# Altium footprint library SW_MSS-102564-D.PcbLib: 1 footprints
Each footprint in its own frame and in the unit in brackets; x right, y up, seen from the top. Pads: shape width x height; smd on the part's side, far side on the other; paste and mask are expansions set on the pad; w line width, h text height; cw(c..) or ccw(c..) is an arc to the next point about the centre after c.
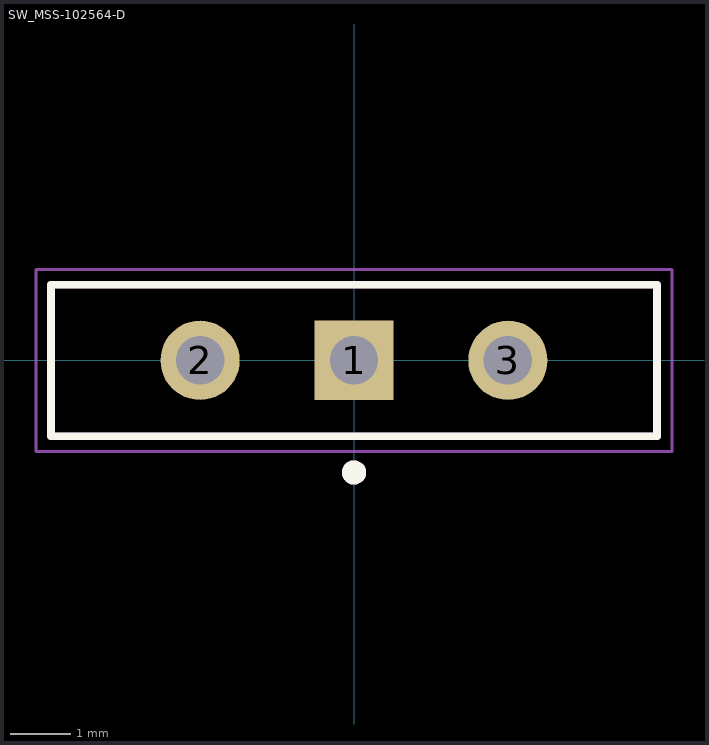
[diagram p0: the footprint, top view; thin cyan lines are the x and y axes]

## SW_MSS-102564-D [mm]
height 6.5
pads (3):
  rect 1.308x1.308 / inner round 1.308 / far side rect 1.308x1.308 hole 0.8: 1(0,0)
  round 1.308 hole 0.8: 2(-2.54,0) 3(2.54,0)
Top Overlay:
  circle w0.2: c0,-1.85 r0.1
  lines w0.127: -5,-1.25 5,-1.25 5,1.25 -5,1.25 -5,-1.25
Assembly Top:
  circle w0.2: c0,-1.85 r0.1
  lines w0.127: -5,-1.25 -5,1.25 5,1.25 5,-1.25 -5,-1.25
Courtyard Top:
  lines w0.05: -5.25,-1.5 -5.25,1.5 5.25,1.5 5.25,-1.5 -5.25,-1.5
3D body "step_temp.STEP": height 5.9, standoff -5.5, extent -5,-1.25 5,1.25